# EAGLE library part LTC3452 (library PowerProducts)
Synchronous Buck-Boost MAIN/CAMERA White LED Driver
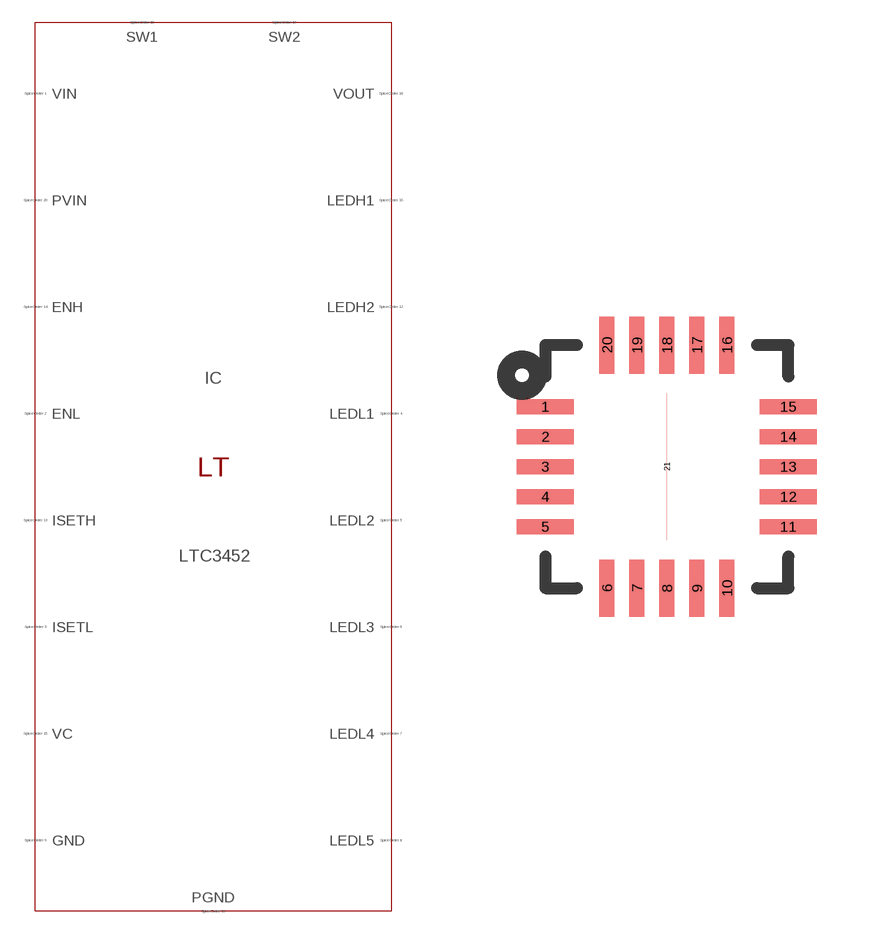
[diagram p191: symbol with the pads of QFN20(UF); footprint QFN20(UF)]

Designator prefix IC

## LTC3452 (SPICEMODEL: LTC3452.sub; SPICEPREFIX: X; VALUE2: LTC3452)  [QFN20(UF)]
1  VIN  pas
2  ENL  pas
3  ISETL  pas
4  LEDL1  pas
5  LEDL2  pas
6  LEDL3  pas
7  LEDL4  pas
8  LEDL5  pas
9  GND  pas
10  LEDH1  pas
11  GND  pas
12  LEDH2  pas
13  ISETH  pas
14  ENH  pas
15  VC  pas
16  VOUT  pas
17  SW2  pas
18  PGND  pas
19  SW1  pas
20  PVIN  pas
21  GND  pas

## Footprint QFN20(UF) (pad centres in mm)
Package generated from: QFN20(UF).asc (!PADS-POWERPCB-V9.3-BASIC! DESIGN DATABASE ASCII FILE 1.0) with :import-pads-powerpcb-v5.ulp Version 1.0.1 at 04.10.2012 14:11:23
smd 1.425 x 0.375: 1 -3.038,1.5; 2 -3.038,0.75; 3 -3.038,0; 4 -3.038,-0.75; 5 -3.038,-1.5; 11 3.038,-1.5; 12 3.038,-0.75; 13 3.038,0; 14 3.038,0.75; 15 3.038,1.5
smd 0.375 x 1.425: 6 -1.5,-3.038; 7 -0.75,-3.038; 8 0,-3.038; 9 0.75,-3.038; 10 1.5,-3.038; 16 1.5,3.038; 17 0.75,3.038; 18 0,3.038; 19 -0.75,3.038; 20 -1.5,3.038
smd 0 x 3.675: 21 0,0